# EAGLE library part DRV8412DDW (library texas)
Dual Full Bridge PWM Motor Driver
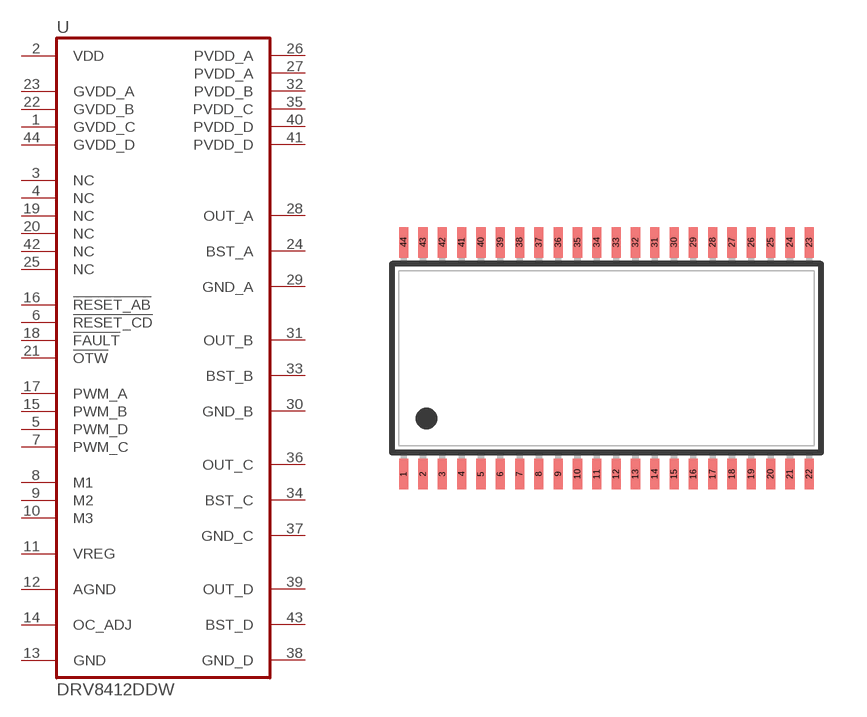
[diagram p55: symbol with the pads of HTSSOP44-DDW; footprint HTSSOP44-DDW]

Designator prefix U

## DRV8412DDW  [HTSSOP44-DDW]
1  GVDD_C  in
2  VDD  in
3  NC  nc
4  NC  nc
5  PWM_D  in
6  !RESET_CD!  in
7  PWM_C  in
8  M1  in
9  M2  in
10  M3  in
11  VREG  out
12  AGND  in
13  GND  in
14  OC_ADJ  out
15  PWM_B  in
16  !RESET_AB!  in
17  PWM_A  in
18  !FAULT!  oc
19  NC  nc
20  NC  nc
21  !OTW!  oc
22  GVDD_B  in
23  GVDD_A  in
24  BST_A  in
25  NC  nc
26  PVDD_A  in
27  PVDD_A  in
28  OUT_A  out
29  GND_A  in
30  GND_B  in
31  OUT_B  out
32  PVDD_B  in
33  BST_B  in
34  BST_C  in
35  PVDD_C  in
36  OUT_C  out
37  GND_C  in
38  GND_D  in
39  OUT_D  out
40  PVDD_D  in
41  PVDD_D  in
42  NC  nc
43  BST_D  in
44  GVDD_D  in

## Footprint HTSSOP44-DDW (pad centres in mm)
HTSSOP44 Exposed Pad (R-PDSO-G44) pitch 0.635 mm, body 6.2 mm x 14.1 mm
smd 0.3 x 1: 1 -6.668,-3.81; 2 -6.032,-3.81; 3 -5.397,-3.81; 4 -4.763,-3.81; 5 -4.128,-3.81; 6 -3.493,-3.81; 7 -2.857,-3.81; 8 -2.223,-3.81; 9 -1.587,-3.81; 10 -0.953,-3.81; 11 -0.318,-3.81; 12 0.318,-3.81; 13 0.953,-3.81; 14 1.587,-3.81; 15 2.223,-3.81; 16 2.857,-3.81; 17 3.493,-3.81; 18 4.128,-3.81; 19 4.763,-3.81; 20 5.397,-3.81; 21 6.032,-3.81; 22 6.668,-3.81; 23 6.668,3.81; 24 6.032,3.81; 25 5.397,3.81; 26 4.763,3.81; 27 4.128,3.81; 28 3.493,3.81; 29 2.857,3.81; 30 2.223,3.81; 31 1.587,3.81; 32 0.953,3.81; 33 0.318,3.81; 34 -0.318,3.81; 35 -0.953,3.81; 36 -1.587,3.81; 37 -2.223,3.81; 38 -2.857,3.81; 39 -3.493,3.81; 40 -4.128,3.81; 41 -4.763,3.81; 42 -5.397,3.81; 43 -6.032,3.81; 44 -6.668,3.81